# EAGLE library part TLV2333IDGKR (library TLV2333IDGKR)
Check prices <https://pricing.snapeda.com/parts/TLV2333IDGKR/Texas%20Instruments/view-part?ref=eda>
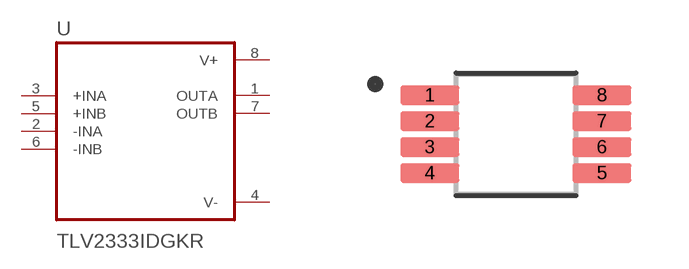
[diagram p0: symbol with the pads of SOP65P490X110-8N; footprint SOP65P490X110-8N]

Designator prefix U

## TLV2333IDGKR (Availability: In Stock; Description: Dual, 350 kHz, Low-Noise, RRIO, CMOS Operational Amplifier for Cost-Sensitive Systems 8-VSSOP -40 to 125; MF: Texas Instruments; MP: TLV2333IDGKR; Package: VSSOP-8 Texas Instruments; Price: None; Purchase-URL: https://pricing.snapeda.com/search/part/TLV2333IDGKR/?ref=eda)  [SOP65P490X110-8N]
1  OUTA  out
2  -INA  in
3  +INA  in
4  V-  pwr
5  +INB  in
6  -INB  in
7  OUTB  out
8  V+  pwr

## Footprint SOP65P490X110-8N (pad centres in mm)
smd 1.47 x 0.48: 1 -2.15,0.975; 2 -2.15,0.325; 3 -2.15,-0.325; 4 -2.15,-0.975; 5 2.15,-0.975; 6 2.15,-0.325; 7 2.15,0.325; 8 2.15,0.975